# Altium schematic symbol library LMS3655.SchLib: 1 symbol
Pins are listed as number, name and electrical type; pins without a type are passive.

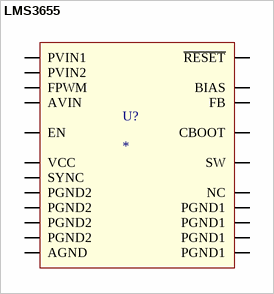
[diagram p0: symbol LMS3655]

## LMS3655
designator U?
pins: 1 VCC, 2 CBOOT, 3 SYNC, 4 PVIN1, 5 PGND1, 6 PGND1, 7 PGND1, 8 PGND1, 9 SW, 10 PGND2, 11 PGND2, 12 PGND2, 13 PGND2, 14 PVIN2, 15 AVIN, 16 FPWM, 17 NC, 18 EN, 19 ~{RESET}, 20 AGND, 21 FB, 22 BIAS